# Altium footprint library SOT-883.PcbLib: 1 footprints
Each footprint in its own frame and in the unit in brackets; x right, y up, seen from the top. Pads: shape width x height; smd on the part's side, far side on the other; paste and mask are expansions set on the pad; w line width, h text height; cw(c..) or ccw(c..) is an arc to the next point about the centre after c.
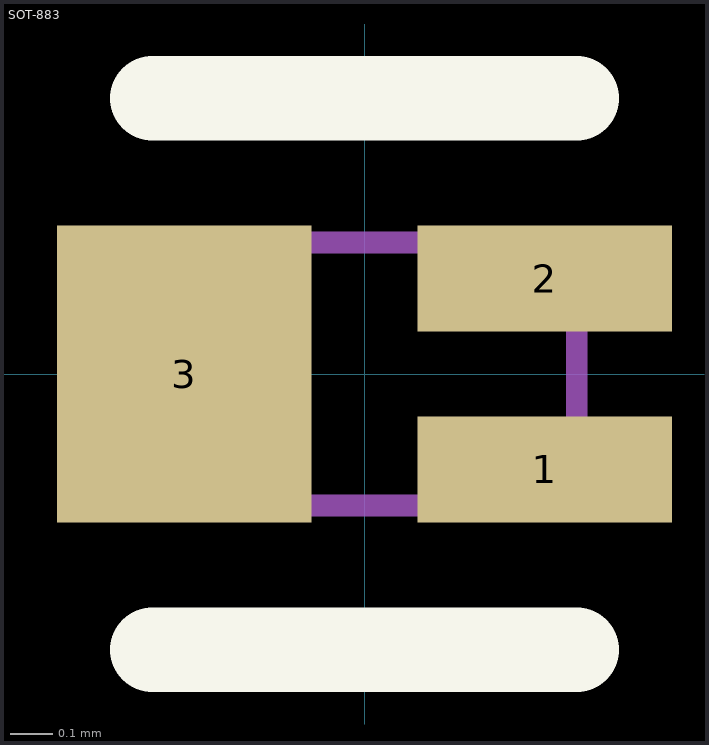
[diagram p0: the footprint, top view; thin cyan lines are the x and y axes]

## SOT-883 [mm]
pads (3):
  rect 0.6x0.25 smd mask+0.051: 1(0.425,-0.225) 2(0.425,0.225)
  rect 0.6x0.7 smd mask+0.051: 3(-0.425,0)
Top Overlay:
  lines w0.2: -0.5,-0.65 0.5,-0.65 ; -0.5,0.65 0.5,0.65
Mechanical 13:
  lines w0.051: -0.5,-0.31 -0.5,0.31 0.5,0.31 0.5,-0.31 -0.5,-0.31